# EAGLE library part AS6C62256 (library Dargon's_lib)
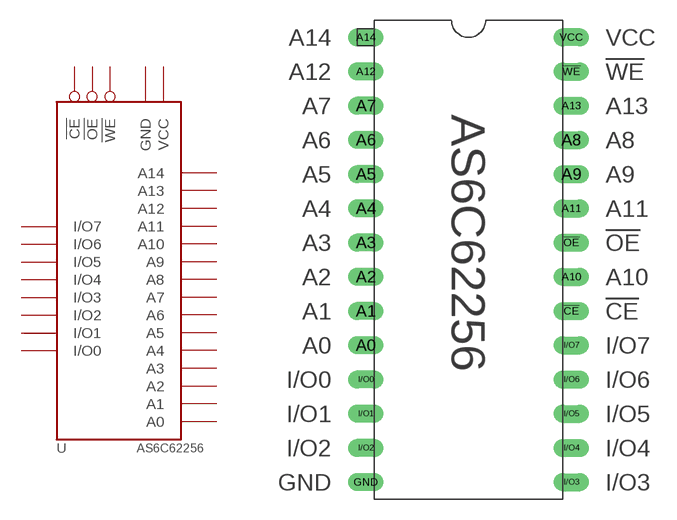
[diagram p1: symbol with the pads of AS6C62256; footprint AS6C62256]

Designator prefix -

## AS6C62256  [AS6C62256]
!CE  !CE
!OE  !OE
!WE  !WE
A0  A0
A1  A1
A2  A2
A3  A3
A4  A4
A5  A5
A6  A6
A7  A7
A8  A8
A9  A9
A10  A10
A11  A11
A12  A12
A13  A13
A14  A14
GND  GND
I/O0  I/O0
I/O1  I/O1
I/O2  I/O2
I/O3  I/O3
I/O4  I/O4
I/O5  I/O5
I/O6  I/O6
I/O7  I/O7
VCC  VCC

## Footprint AS6C62256 (pad centres in mm)
drill 0.813 long: !CE 7.62,-3.81; !OE 7.62,1.27; !WE 7.62,13.97; A0 -7.62,-6.35; A1 -7.62,-3.81; A2 -7.62,-1.27; A3 -7.62,1.27; A4 -7.62,3.81; A5 -7.62,6.35; A6 -7.62,8.89; A7 -7.62,11.43; A8 7.62,8.89; A9 7.62,6.35; A10 7.62,-1.27; A11 7.62,3.81; A12 -7.62,13.97; A13 7.62,11.43; A14 -7.62,16.51; GND -7.62,-16.51; I/O0 -7.62,-8.89; I/O1 -7.62,-11.43; I/O2 -7.62,-13.97; I/O3 7.62,-16.51; I/O4 7.62,-13.97; I/O5 7.62,-11.43; I/O6 7.62,-8.89; I/O7 7.62,-6.35; VCC 7.62,16.51